# Altium schematic symbol library SchematicLibrary.SchLib: 6 symbols
Pins are listed as number, name and electrical type; pins without a type are passive.

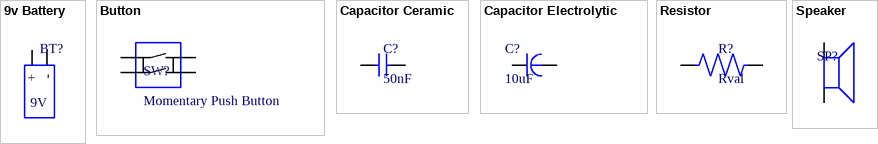
[diagram p0: symbols 9v Battery to Speaker]

## 9v Battery
designator BT?, comment 9v Battery Contacts  (value not drawn)
footprint 9V Battery
pins: N -, P +
text: 9V

## Button
designator SW?, comment Momentary Push Button
footprint Button
pins: 1, 2, 3, 4

## Capacitor Ceramic
designator C?, comment 50nF
footprint Ceramic Capacitor
pins: 1, 2

## Capacitor Electrolytic
designator C?, comment 10uF
footprint Electrolytic Capacitor
pins: N -, P +

## Resistor
designator R?, comment Rval
footprint Resistor
pins: 1, 2

## Speaker
designator SP?, comment Small 8R PCB mount Speaker  (value not drawn)
footprint Speaker
pins: 1, 2